# Altium footprint library 毕设PCB库.PcbLib: 6 footprints
Each footprint in its own frame and in the unit in brackets; x right, y up, seen from the top. Pads: shape width x height; smd on the part's side, far side on the other; paste and mask are expansions set on the pad; w line width, h text height; cw(c..) or ccw(c..) is an arc to the next point about the centre after c.
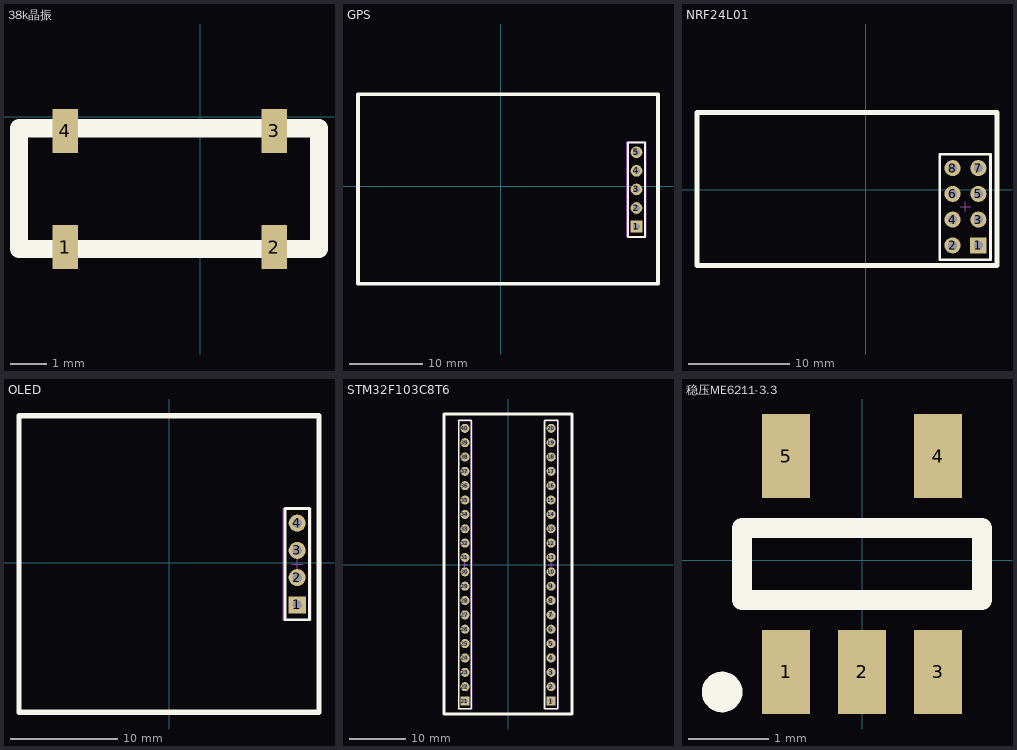
[diagram p0: the footprints below, top view; thin cyan lines are the x and y axes]

## 38k晶振 [mm]
pads (4):
  rect 0.7x1.2 smd: 1(-3.693,-3.556) 2(2.022,-3.556) 3(2.022,-0.381) 4(-3.693,-0.381)
Top Overlay:
  lines w0.5: -4.953,-3.611 -4.953,-0.311 3.247,-0.311 3.247,-3.611 -4.953,-3.611

## GPS [mm]
pads (5):
  rect 1.6x1.6 hole 0.9: 1(18.544,-5.519)
  round 1.6 hole 0.9: 2(18.544,-2.979) 3(18.544,-0.439) 4(18.544,2.101) 5(18.544,4.641)
Top Overlay:
  lines w0.254: 17.401,-6.939 17.401,5.981 19.687,5.981 19.687,-6.939 17.401,-6.939
  lines w0.5: -19.537,-10.16 -19.537,-10.054 ; -19.537,12.565 -19.537,-13.335 21.463,-13.335 ; -19.537,12.573 21.463,12.573 ; 21.484,-13.335 21.484,12.565
Mechanical 15:
  lines w0.1: 17.244,-6.939 17.244,6.061 19.844,6.061 19.844,-6.939 17.244,-6.939
3D body "Header-F-2.54X5.stp": height 8.6, standoff -3.1, extent 17.294,-6.914 19.794,6.036

## NRF24L01 [mm]
pads (8):
  rect 1.6x1.6 hole 0.9: 1(11.112,-5.498)
  round 1.6 hole 0.9: 2(8.572,-5.498) 3(11.112,-2.958) 4(8.572,-2.958) 5(11.112,-0.418) 6(8.572,-0.418) 7(11.112,2.122) 8(8.572,2.122)
Top Overlay:
  lines w0.254: 7.312,-6.898 12.312,-6.898 12.312,3.502 7.312,3.502 7.312,-6.898
  lines w0.5: -16.637,-7.493 -16.637,7.62 12.954,7.62 12.954,-7.493 -16.637,-7.493
Mechanical 15:
  lines w0.1: 9.342,-1.688 10.342,-1.688 ; 9.842,-2.188 9.842,-1.188 ; 7.342,-6.888 12.342,-6.888 12.342,3.512 7.342,3.512 7.342,-6.888
3D body "Header-F-2.54-2X8.stp": height 8.6, standoff -3.1, extent 7.312,-6.898 12.312,3.512

## OLED [mm]
pads (4):
  rect 1.6x1.6 hole 0.9: 1(11.938,-3.937)
  round 1.6 hole 0.9: 2(11.938,-1.397) 3(11.938,1.143) 4(11.938,3.683)
Top Overlay:
  lines w0.254: 10.795,-5.327 13.081,-5.327 13.081,5.063 10.795,5.063 10.795,-5.327
  lines w0.5: -14.03,-13.97 13.97,-13.97 13.97,13.716 -14.03,13.716 -14.03,-13.97
Mechanical 15:
  lines w0.1: 11.438,-0.127 12.438,-0.127 ; 11.938,-0.627 11.938,0.373 ; 10.638,-5.327 13.238,-5.327 13.238,5.073 10.638,5.073 10.638,-5.327
3D body "Header-F-2.54X4.stp": height 8.6, standoff -3.1, extent 10.688,-5.332 13.188,5.078

## STM32F103C8T6 [mm]
pads (40):
  rect 1.6x1.6 hole 0.9: 1(7.62,-24.13) 21(-7.62,-24.13)
  round 1.6 hole 0.9: 2(7.62,-21.59) 3(7.62,-19.05) 4(7.62,-16.51) 5(7.62,-13.97) 6(7.62,-11.43) 7(7.62,-8.89) 8(7.62,-6.35) 9(7.62,-3.81) 10(7.62,-1.27) 11(7.62,1.27) 12(7.62,3.81) 13(7.62,6.35) 14(7.62,8.89) 15(7.62,11.43) 16(7.62,13.97) 17(7.62,16.51) 18(7.62,19.05) 19(7.62,21.59) 20(7.62,24.13) 22(-7.62,-21.59) 23(-7.62,-19.05) 24(-7.62,-16.51) 25(-7.62,-13.97) 26(-7.62,-11.43) 27(-7.62,-8.89) 28(-7.62,-6.35) 29(-7.62,-3.81) 30(-7.62,-1.27) 31(-7.62,1.27) 32(-7.62,3.81) 33(-7.62,6.35) 34(-7.62,8.89) 35(-7.62,11.43) 36(-7.62,13.97) 37(-7.62,16.51) 38(-7.62,19.05) 39(-7.62,21.59) 40(-7.62,24.13)
Top Overlay:
  lines w0.254: -8.763,-25.5 -6.477,-25.5 -6.477,25.57 -8.763,25.57 -8.763,-25.5 ; 6.477,-25.5 6.477,25.57 8.763,25.57 8.763,-25.5 6.477,-25.5
  lines w0.5: -11.31,26.57 -11.31,-26.43 11.296,-26.43 11.296,26.656 -11.31,26.656
Mechanical 15:
  lines w0.1: -8.92,-25.5 -6.32,-25.5 -6.32,25.5 -8.92,25.5 ; -8.763,-25.43 -8.763,25.57 ; -8.12,0 -7.12,0 ; -7.62,-0.5 -7.62,0.5 ; 7.12,0 8.12,0 ; 7.62,-0.5 7.62,0.5 ; 6.32,-25.5 6.32,25.5 8.92,25.5 8.92,-25.5 6.32,-25.5
3D body "Header-F-2.54X20.stp": height 8.6, standoff -3.1, extent 6.38,-25.53 8.88,25.52
3D body "Header-F-2.54X20.stp": height 8.6, standoff -3.1, extent -8.86,-25.53 -6.36,25.52

## 稳压ME6211-3.3 [mm]
pads (5):
  rect 0.6x1.05 smd: 1(-0.95,-1.4) 2(0,-1.4) 3(0.95,-1.4) 4(0.95,1.3) 5(-0.95,1.3)
Top Overlay:
  circle w0.254: c-1.75,-1.65 r0.127
  lines w0.254: -1.5,-0.5 -1.5,0.4 1.5,0.4 1.5,-0.5 -1.5,-0.5
3D body "SOT-23-5.STEP": height 1.3, standoff 0, extent -1.5,-1.55 1.5,1.45